# EAGLE library part W2A45C103MAT2A (library W2A45C103MAT2A)
Capacitor Arrays & Networks 50V 0.01uF 20% 4cap X7R Source: Datasheet <https://static6.arrow.com/aropdfconversion/45e297553e8a3b18fcd0ed38f532e52a09efc12d/caparray.pdf>
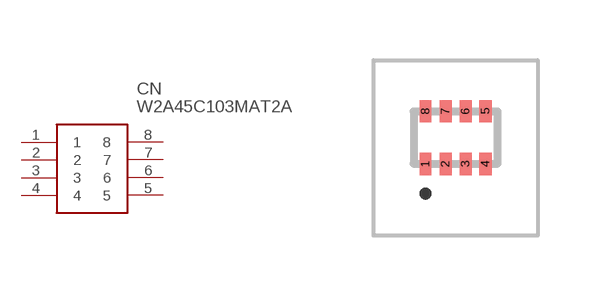
[diagram p0: symbol with the pads of W2A45C103MAT2A; footprint W2A45C103MAT2A]

Designator prefix CN

## W2A45C103MAT2A (Arrow_Part_Number: W2A45C103MAT2A; Arrow_Price-Stock: https://www.arrow.com/en/products/w2a45c103mat2a/avx; Description: Capacitor Arrays & Networks 50V 0.01uF 20% 4cap X7R; Height: 0.94mm; Manufacturer_Name: Kyocera AVX; Manufacturer_Part_Number: W2A45C103MAT2A; Mouser_Part_Number: 581-W2A45C103MAT2A; Mouser_Price-Stock: https://www.mouser.co.uk/ProductDetail/AVX/W2A45C103MAT2A?qs=yRKuMHbOG1qe0RwRtAbZEg%3D%3D)  [W2A45C103MAT2A]
1  1
2  2
3  3
4  4
5  5
6  6
7  7
8  8

## Footprint W2A45C103MAT2A (pad centres in mm)
W2A45C103MAT2A-1
smd 0.3 x 0.56: 1 -0.75,-0.66; 2 -0.25,-0.66; 3 0.25,-0.66; 4 0.75,-0.66; 5 0.75,0.66; 6 0.25,0.66; 7 -0.25,0.66; 8 -0.75,0.66